# Altium schematic symbol library myIOT_lib.SchLib: 105 symbols (part 2 of 2)
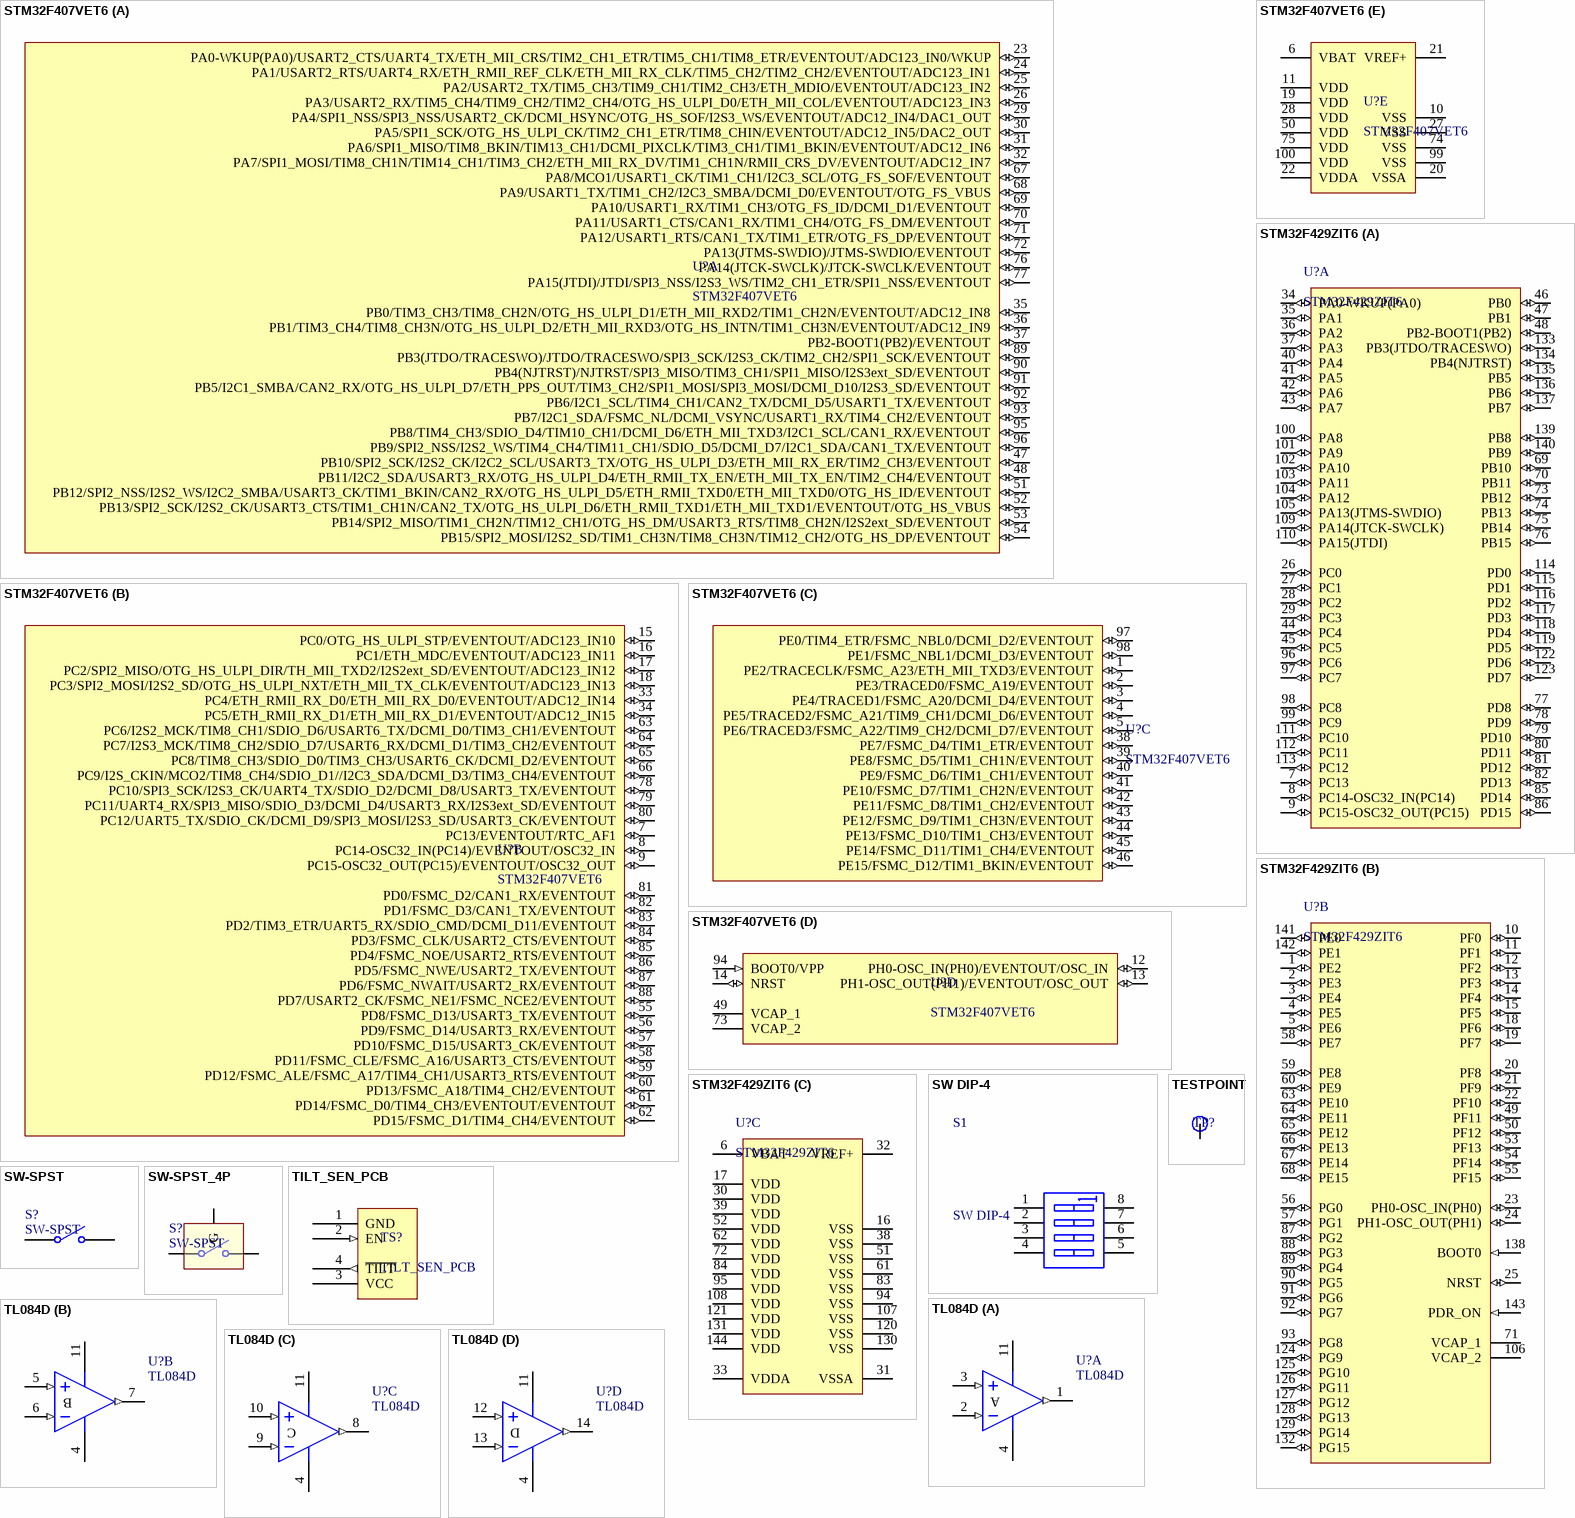
[diagram p9: symbols STM32F407VET6 to TL084D]

## STM32F407VET6
designator U?
ARM; ComponentLink1Description: 供应商链接; ComponentLink1URL: http://www.szlcsc.com/product/details_29482.html; Package: LQFP-100_14x14x05P; Supplier: LC; SuppliersPartNumber: C28730
footprint LQFP-100_14x14x05P
part A pins: 23 PA0-WKUP(PA0)/USART2_CTS/UART4_TX/ETH_MII_CRS/TIM2_CH1_ETR/TIM5_CH1/TIM8_ETR/EVENTOUT/ADC123_IN0/WKUP (io), 24 PA1/USART2_RTS/UART4_RX/ETH_RMII_REF_CLK/ETH_MII_RX_CLK/TIM5_CH2/TIM2_CH2/EVENTOUT/ADC123_IN1 (io), 25 PA2/USART2_TX/TIM5_CH3/TIM9_CH1/TIM2_CH3/ETH_MDIO/EVENTOUT/ADC123_IN2 (io), 26 PA3/USART2_RX/TIM5_CH4/TIM9_CH2/TIM2_CH4/OTG_HS_ULPI_D0/ETH_MII_COL/EVENTOUT/ADC123_IN3 (io), 29 PA4/SPI1_NSS/SPI3_NSS/USART2_CK/DCMI_HSYNC/OTG_HS_SOF/I2S3_WS/EVENTOUT/ADC12_IN4/DAC1_OUT (io), 30 PA5/SPI1_SCK/OTG_HS_ULPI_CK/TIM2_CH1_ETR/TIM8_CHIN/EVENTOUT/ADC12_IN5/DAC2_OUT (io), 31 PA6/SPI1_MISO/TIM8_BKIN/TIM13_CH1/DCMI_PIXCLK/TIM3_CH1/TIM1_BKIN/EVENTOUT/ADC12_IN6 (io), 32 PA7/SPI1_MOSI/TIM8_CH1N/TIM14_CH1/TIM3_CH2/ETH_MII_RX_DV/TIM1_CH1N/RMII_CRS_DV/EVENTOUT/ADC12_IN7 (io), 35 PB0/TIM3_CH3/TIM8_CH2N/OTG_HS_ULPI_D1/ETH_MII_RXD2/TIM1_CH2N/EVENTOUT/ADC12_IN8 (io), 36 PB1/TIM3_CH4/TIM8_CH3N/OTG_HS_ULPI_D2/ETH_MII_RXD3/OTG_HS_INTN/TIM1_CH3N/EVENTOUT/ADC12_IN9 (io), 37 PB2-BOOT1(PB2)/EVENTOUT (io), 47 PB10/SPI2_SCK/I2S2_CK/I2C2_SCL/USART3_TX/OTG_HS_ULPI_D3/ETH_MII_RX_ER/TIM2_CH3/EVENTOUT (io), 48 PB11/I2C2_SDA/USART3_RX/OTG_HS_ULPI_D4/ETH_RMII_TX_EN/ETH_MII_TX_EN/TIM2_CH4/EVENTOUT (io), 51 PB12/SPI2_NSS/I2S2_WS/I2C2_SMBA/USART3_CK/TIM1_BKIN/CAN2_RX/OTG_HS_ULPI_D5/ETH_RMII_TXD0/ETH_MII_TXD0/OTG_HS_ID/EVENTOUT (io), 52 PB13/SPI2_SCK/I2S2_CK/USART3_CTS/TIM1_CH1N/CAN2_TX/OTG_HS_ULPI_D6/ETH_RMII_TXD1/ETH_MII_TXD1/EVENTOUT/OTG_HS_VBUS (io), 53 PB14/SPI2_MISO/TIM1_CH2N/TIM12_CH1/OTG_HS_DM/USART3_RTS/TIM8_CH2N/I2S2ext_SD/EVENTOUT (io), 54 PB15/SPI2_MOSI/I2S2_SD/TIM1_CH3N/TIM8_CH3N/TIM12_CH2/OTG_HS_DP/EVENTOUT (io), 67 PA8/MCO1/USART1_CK/TIM1_CH1/I2C3_SCL/OTG_FS_SOF/EVENTOUT (io), 68 PA9/USART1_TX/TIM1_CH2/I2C3_SMBA/DCMI_D0/EVENTOUT/OTG_FS_VBUS (io), 69 PA10/USART1_RX/TIM1_CH3/OTG_FS_ID/DCMI_D1/EVENTOUT (io), 70 PA11/USART1_CTS/CAN1_RX/TIM1_CH4/OTG_FS_DM/EVENTOUT (io), 71 PA12/USART1_RTS/CAN1_TX/TIM1_ETR/OTG_FS_DP/EVENTOUT (io), 72 PA13(JTMS-SWDIO)/JTMS-SWDIO/EVENTOUT (io), 76 PA14(JTCK-SWCLK)/JTCK-SWCLK/EVENTOUT (io), 77 PA15(JTDI)/JTDI/SPI3_NSS/I2S3_WS/TIM2_CH1_ETR/SPI1_NSS/EVENTOUT (io), 89 PB3(JTDO/TRACESWO)/JTDO/TRACESWO/SPI3_SCK/I2S3_CK/TIM2_CH2/SPI1_SCK/EVENTOUT (io), 90 PB4(NJTRST)/NJTRST/SPI3_MISO/TIM3_CH1/SPI1_MISO/I2S3ext_SD/EVENTOUT (io), 91 PB5/I2C1_SMBA/CAN2_RX/OTG_HS_ULPI_D7/ETH_PPS_OUT/TIM3_CH2/SPI1_MOSI/SPI3_MOSI/DCMI_D10/I2S3_SD/EVENTOUT (io), 92 PB6/I2C1_SCL/TIM4_CH1/CAN2_TX/DCMI_D5/USART1_TX/EVENTOUT (io), 93 PB7/I2C1_SDA/FSMC_NL/DCMI_VSYNC/USART1_RX/TIM4_CH2/EVENTOUT (io), 95 PB8/TIM4_CH3/SDIO_D4/TIM10_CH1/DCMI_D6/ETH_MII_TXD3/I2C1_SCL/CAN1_RX/EVENTOUT (io), 96 PB9/SPI2_NSS/I2S2_WS/TIM4_CH4/TIM11_CH1/SDIO_D5/DCMI_D7/I2C1_SDA/CAN1_TX/EVENTOUT (io)
part B pins: 7 PC13/EVENTOUT/RTC_AF1 (io), 8 PC14-OSC32_IN(PC14)/EVENTOUT/OSC32_IN (io), 9 PC15-OSC32_OUT(PC15)/EVENTOUT/OSC32_OUT (io), 15 PC0/OTG_HS_ULPI_STP/EVENTOUT/ADC123_IN10 (io), 16 PC1/ETH_MDC/EVENTOUT/ADC123_IN11 (io), 17 PC2/SPI2_MISO/OTG_HS_ULPI_DIR/TH_MII_TXD2/I2S2ext_SD/EVENTOUT/ADC123_IN12 (io), 18 PC3/SPI2_MOSI/I2S2_SD/OTG_HS_ULPI_NXT/ETH_MII_TX_CLK/EVENTOUT/ADC123_IN13 (io), 33 PC4/ETH_RMII_RX_D0/ETH_MII_RX_D0/EVENTOUT/ADC12_IN14 (io), 34 PC5/ETH_RMII_RX_D1/ETH_MII_RX_D1/EVENTOUT/ADC12_IN15 (io), 55 PD8/FSMC_D13/USART3_TX/EVENTOUT (io), 56 PD9/FSMC_D14/USART3_RX/EVENTOUT (io), 57 PD10/FSMC_D15/USART3_CK/EVENTOUT (io), 58 PD11/FSMC_CLE/FSMC_A16/USART3_CTS/EVENTOUT (io), 59 PD12/FSMC_ALE/FSMC_A17/TIM4_CH1/USART3_RTS/EVENTOUT (io), 60 PD13/FSMC_A18/TIM4_CH2/EVENTOUT (io), 61 PD14/FSMC_D0/TIM4_CH3/EVENTOUT/EVENTOUT (io), 62 PD15/FSMC_D1/TIM4_CH4/EVENTOUT (io), 63 PC6/I2S2_MCK/TIM8_CH1/SDIO_D6/USART6_TX/DCMI_D0/TIM3_CH1/EVENTOUT (io), 64 PC7/I2S3_MCK/TIM8_CH2/SDIO_D7/USART6_RX/DCMI_D1/TIM3_CH2/EVENTOUT (io), 65 PC8/TIM8_CH3/SDIO_D0/TIM3_CH3/USART6_CK/DCMI_D2/EVENTOUT (io), 66 PC9/I2S_CKIN/MCO2/TIM8_CH4/SDIO_D1//I2C3_SDA/DCMI_D3/TIM3_CH4/EVENTOUT (io), 78 PC10/SPI3_SCK/I2S3_CK/UART4_TX/SDIO_D2/DCMI_D8/USART3_TX/EVENTOUT (io), 79 PC11/UART4_RX/SPI3_MISO/SDIO_D3/DCMI_D4/USART3_RX/I2S3ext_SD/EVENTOUT (io), 80 PC12/UART5_TX/SDIO_CK/DCMI_D9/SPI3_MOSI/I2S3_SD/USART3_CK/EVENTOUT (io), 81 PD0/FSMC_D2/CAN1_RX/EVENTOUT (io), 82 PD1/FSMC_D3/CAN1_TX/EVENTOUT (io), 83 PD2/TIM3_ETR/UART5_RX/SDIO_CMD/DCMI_D11/EVENTOUT (io), 84 PD3/FSMC_CLK/USART2_CTS/EVENTOUT (io), 85 PD4/FSMC_NOE/USART2_RTS/EVENTOUT (io), 86 PD5/FSMC_NWE/USART2_TX/EVENTOUT (io), 87 PD6/FSMC_NWAIT/USART2_RX/EVENTOUT (io), 88 PD7/USART2_CK/FSMC_NE1/FSMC_NCE2/EVENTOUT (io)
part C pins: 1 PE2/TRACECLK/FSMC_A23/ETH_MII_TXD3/EVENTOUT (io), 2 PE3/TRACED0/FSMC_A19/EVENTOUT (io), 3 PE4/TRACED1/FSMC_A20/DCMI_D4/EVENTOUT (io), 4 PE5/TRACED2/FSMC_A21/TIM9_CH1/DCMI_D6/EVENTOUT (io), 5 PE6/TRACED3/FSMC_A22/TIM9_CH2/DCMI_D7/EVENTOUT (io), 38 PE7/FSMC_D4/TIM1_ETR/EVENTOUT (io), 39 PE8/FSMC_D5/TIM1_CH1N/EVENTOUT (io), 40 PE9/FSMC_D6/TIM1_CH1/EVENTOUT (io), 41 PE10/FSMC_D7/TIM1_CH2N/EVENTOUT (io), 42 PE11/FSMC_D8/TIM1_CH2/EVENTOUT (io), 43 PE12/FSMC_D9/TIM1_CH3N/EVENTOUT (io), 44 PE13/FSMC_D10/TIM1_CH3/EVENTOUT (io), 45 PE14/FSMC_D11/TIM1_CH4/EVENTOUT (io), 46 PE15/FSMC_D12/TIM1_BKIN/EVENTOUT (io), 97 PE0/TIM4_ETR/FSMC_NBL0/DCMI_D2/EVENTOUT (io), 98 PE1/FSMC_NBL1/DCMI_D3/EVENTOUT (io)
part D pins: 12 PH0-OSC_IN(PH0)/EVENTOUT/OSC_IN (io), 13 PH1-OSC_OUT(PH1)/EVENTOUT/OSC_OUT (io), 14 NRST (io), 49 VCAP_1 (power), 73 VCAP_2 (power), 94 BOOT0/VPP (in)
part E pins: 6 VBAT (power), 10 VSS (power), 11 VDD (power), 19 VDD (power), 20 VSSA (power), 21 VREF+ (power), 22 VDDA (power), 27 VSS (power), 28 VDD (power), 50 VDD (power), 74 VSS (power), 75 VDD (power), 99 VSS (power), 100 VDD (power)

## STM32F429ZIT6
designator U?
ARM Cortex-M4 32-bit MCU+FPU, 225 DMIPS, 2048 kB Flash, 256 kB Internal RAM, 114 I/Os, 144-pin LQFP, -40 to 85 degC, Tray; Supply Voltage(Vcc) max (V): 3.6; Supply Voltage(Vcc) min (V): 1.8; MFG P/N: STM32F429ZIT6; DatasheetVersion: Rev. 2; Packing: Tray; PackageReference: LQFP144; PackageVersion: Rev. 4, 06/2013; PackageDescription: 144-Pin Low Profile Quad Flat Package, 20 x 20 mm Body, 0.5 mm Pitch
footprint LQFP144_L (Thin QFP, 144-Leads, Body 20x20mm, Pitch 0.5mm, IPC High Density)
footprint LQFP144_M (Thin QFP, 144-Leads, Body 20x20mm, Pitch 0.5mm, IPC Low Density)
footprint LQFP144_N (Thin QFP, 144-Leads, Body 20x20mm, Pitch 0.5mm, IPC Medium Density)
footprint LQFP144_V (Thin QFP, 144-Leads, Body 20x20mm, Pitch 0.5mm, ST Recommended)
part A pins: 7 PC13 (io) "PC13/EVENTOUT/TAMP_1", 8 PC14-OSC32_IN(PC14) (io) "PC14-OSC32_IN(PC14)/EVENTOUT/OSC32_IN", 9 PC15-OSC32_OUT(PC15) (io) "PC15-OSC32_OUT(PC15)/EVENTOUT/OSC32_OUT", 26 PC0 (io) "PC0/OTG_HS_ULPI_STP,FMC_SDNWE,EVENTOUT/ADC123_IN10", 27 PC1 (io) "PC1/ETH_MDC,EVENTOUT/ADC123_IN11", 28 PC2 (io) "PC2/SPI2_MISO,I2S2ext_SD,OTG_HS_ULPI_DIR,ETH_MII_TXD2,FMC_SDNE0,EVENTOUT/ADC123_IN12", 29 PC3 (io) "PC3/SPI2_MOSI/I2S2_SD,OTG_HS_ULPI_NXT,ETH_MII_TX_CLK,FMC_SDCKE0,EVENTOUT/ADC123_IN13", 34 PA0-WKUP(PA0) (io) "PA0-WKUP(PA0)/TIM2_CH1/TIM2_ETR,TIM5_CH1,TIM8_ETR,USART2_CTS,UART4_TX,ETH_MII_CRS,EVENTOUT/ADC123_IN0/WKUP", 35 PA1 (io) "PA1/TIM2_CH2,TIM5_CH2,USART2_RTS,UART4_RX,ETH_MII_RX_CLK/ETH_RMII_REF_CLK,EVENTOUT/ADC123_IN1", 36 PA2 (io) "PA2/TIM2_CH3,TIM5_CH3,TIM9_CH1,USART2_TX,ETH_MDIO,EVENTOUT/ADC123_IN2", 37 PA3 (io) "PA3/TIM2_CH4,TIM5_CH4,TIM9_CH2,USART2_RX,OTG_HS_ULPI_D0,ETH_MII_COL,LCD_B5,EVENTOUT/ADC123_IN3", 40 PA4 (io) "PA4/SPI1_NSS,SPI3_NSS/I2S3_WS,USART2_CK,OTG_HS_SOF,DCMI_HSYNC,LCD_VSYNC,EVENTOUT/ADC12_IN4/DAC_OUT1", 41 PA5 (io) "PA5/TIM2_CH1/TIM2_ETR,TIM8_CH1N,SPI1_SCK,OTG_HS_ULPI_CK,EVENTOUT/ADC12_IN5/DAC_OUT2", 42 PA6 (io) "PA6/TIM1_BKIN,TIM3_CH1,TIM8_BKIN,SPI1_MISO,TIM13_CH1,DCMI_PIXCLK,LCD_G2,EVENTOUT/ADC12_IN6", 43 PA7 (io) "PA7/TIM1_CH1N,TIM3_CH2,TIM8_CH1N,SPI1_MOSI,TIM14_CH1,ETH_MII_RX_DV/ETH_RMII_CRS_DV,EVENTOUT/ADC12_IN7", 44 PC4 (io) "PC4/ETH_MII_RXD0/ETH_RMII_RXD0,EVENTOUT/ADC12_IN14", 45 PC5 (io) "PC5/ETH_MII_RXD1/ETH_RMII_RXD1,EVENTOUT/ADC12_IN15", 46 PB0 (io) "PB0/TIM1_CH2N,TIM3_CH3,TIM8_CH2N,LCD_R3,OTG_HS_ULPI_D1,ETH_MII_RXD2,EVENTOUT/ADC12_IN8", 47 PB1 (io) "PB1/TIM1_CH3N,TIM3_CH4,TIM8_CH3N,LCD_R6,OTG_HS_ULPI_D2,ETH_MII_RXD3,EVENTOUT/ADC12_IN9", 48 PB2-BOOT1(PB2) (io) "PB2-BOOT1(PB2)/EVENTOUT", 69 PB10 (io) "PB10/TIM2_CH3,I2C2_SCL,SPI2_SCK/I2S2_CK,USART3_TX,OTG_HS_ULPI_D3,ETH_MII_RX_ER,LCD_G4,EVENTOUT", 70 PB11 (io) "PB11/TIM2_CH4,I2C2_SDA,USART3_RX,OTG_HS_ULPI_D4,ETH_MII_TX_EN/ETH_RMII_TX_EN,LCD_G5,EVENTOUT", 73 PB12 (io) "PB12/TIM1_BKIN,I2C2_SMBA,SPI2_NSS/I2S2_WS,USART3_CK,CAN2_RX,OTG_HS_ULPI_D5,ETH_MII_TXD0/ETH_RMII_TXD0,OTG_HS_ID,EVENTOUT", 74 PB13 (io) "PB13/TIM1_CH1N,SPI2_SCK/I2S2_CK,USART3_CTS,CAN2_TX,OTG_HS_ULPI_D6,ETH_MII_TXD1/ETH_RMII_TXD1,EVENTOUT/OTG_HS_VBUS", 75 PB14 (io) "PB14/TIM1_CH2N,TIM8_CH2N,SPI2_MISO,I2S2ext_SD,USART3_RTS,TIM12_CH1,EVENTOUT/OTG_HS_DM", 76 PB15 (io) "PB15/RTC_REFIN,TIM1_CH3N,TIM8_CH3N,SPI2_MOSI/I2S2_SD,TIM12_CH2,EVENTOUT/OTG_HS_DP", 77 PD8 (io) "PD8/USART3_TX,FMC_D13,EVENTOUT", 78 PD9 (io) "PD9/USART3_RX,FMC_D14,EVENTOUT", 79 PD10 (io) "PD10/USART3_CK,FMC_D15,LCD_B3,EVENTOUT", 80 PD11 (io) "PD11/USART3_CTS,FMC_A16,EVENTOUT", 81 PD12 (io) "PD12/TIM4_CH1,USART3_RTS,FMC_A17,EVENTOUT", 82 PD13 (io) "PD13/TIM4_CH2,FMC_A18,EVENTOUT", 85 PD14 (io) "PD14/TIM4_CH3,FMC_D0,EVENTOUT", 86 PD15 (io) "PD15/TIM4_CH4,FMC_D1,EVENTOUT", 96 PC6 (io) "PC6/TIM3_CH1,TIM8_CH1,I2S2_MCK,USART6_TX,SDIO_D6,DCMI_D0,LCD_HSYNC,EVENTOUT", 97 PC7 (io) "PC7/TIM3_CH2,TIM8_CH2,I2S3_MCK,USART6_RX,SDIO_D7,DCMI_D1,LCD_G6,EVENTOUT", 98 PC8 (io) "PC8/TIM3_CH3,TIM8_CH3,USART6_CK,SDIO_D0,DCMI_D2,EVENTOUT", 99 PC9 (io) "PC9/MCO2,TIM3_CH4,TIM8_CH4,I2C3_SDA,I2S_CKIN,SDIO_D1,DCMI_D3,EVENTOUT", 100 PA8 (io) "PA8/MCO1,TIM1_CH1,I2C3_SCL,USART1_CK,OTG_FS_SOF,LCD_R6,EVENTOUT", 101 PA9 (io) "PA9/TIM1_CH2,I2C3_SMBA,USART1_TX,DCMI_D0,EVENTOUT/OTG_FS_VBUS", 102 PA10 (io) "PA10/TIM1_CH3,USART1_RX,OTG_FS_ID,DCMI_D1,EVENTOUT", 103 PA11 (io) "PA11/TIM1_CH4,USART1_CTS,CAN1_RX,LCD_R4,EVENTOUT/OTG_FS_DM", 104 PA12 (io) "PA12/TIM1_ETR,USART1_RTS,CAN1_TX,LCD_R5,EVENTOUT/OTG_FS_DP", 105 PA13(JTMS-SWDIO) (io) "PA13(JTMS-SWDIO)/JTMS-SWDIO,EVENTOUT", 109 PA14(JTCK-SWCLK) (io) "PA14(JTCK-SWCLK)/JTCK-SWCLK/EVENTOUT", 110 PA15(JTDI) (io) "PA15(JTDI)/JTDI,TIM2_CH1/TIM2_ETR,SPI1_NSS,SPI3_NSS/I2S3_WS,EVENTOUT", 111 PC10 (io) "PC10/SPI3_SCK/I2S3_CK,USART3_TX,UART4_TX,SDIO_D2,DCMI_D8,LCD_R2,EVENTOUT", 112 PC11 (io) "PC11/I2S3ext_SD,SPI3_MISO,USART3_RX,UART4_RX,SDIO_D3,DCMI_D4,EVENTOUT", 113 PC12 (io) "PC12/SPI3_MOSI/I2S3_SD,USART3_CK,UART5_TX,SDIO_CK,DCMI_D9,EVENTOUT", 114 PD0 (io) "PD0/CAN1_RX,FMC_D2,EVENTOUT", 115 PD1 (io) "PD1/CAN1_TX,FMC_D3,EVENTOUT", 116 PD2 (io) "PD2/TIM3_ETR,UART5_RX,SDIO_CMD,DCMI_D11,EVENTOUT", 117 PD3 (io) "PD3/SPI2_SCK/I2S2_CK,USART2_CTS,FMC_CLK,DCMI_D5,LCD_G7,EVENTOUT", 118 PD4 (io) "PD4/USART2_RTS,FMC_NOE,EVENTOUT", 119 PD5 (io) "PD5/USART2_TX,FMC_NWE,EVENTOUT", 122 PD6 (io) "PD6/SPI3_MOSI/I2S3_SD,SAI1_SD_A,USART2_RX,FMC_NWAIT,DCMI_D10,LCD_B2,EVENTOUT", 123 PD7 (io) "PD7/USART2_CK,FMC_NE1/FMC_NCE2,EVENTOUT", 133 PB3(JTDO/TRACESWO) (io) "PB3(JTDO/TRACESWO)/JTDO/TRACESWO,TIM2_CH2,SPI1_SCK,SPI3_SCK/I2S3_CK,EVENTOUT", 134 PB4(NJTRST) (io) "PB4(NJTRST)/NJTRST,TIM3_CH1,SPI1_MISO,SPI3_MISO,I2S3ext_SD,EVENTOUT", 135 PB5 (io) "PB5/TIM3_CH2,I2C1_SMBA,SPI1_MOSI,SPI3_MOSI/I2S3_SD,CAN2_RX,OTG_HS_ULPI_D7,ETH_PPS_OUT,FMC_SDCKE1,DCMI_D10,EVENTOUT", 136 PB6 (io) "PB6/TIM4_CH1,I2C1_SCL,USART1_TX,CAN2_TX,FMC_SDNE1,DCMI_D5,EVENTOUT", 137 PB7 (io) "PB7/TIM4_CH2,I2C1_SDA,USART1_RX,FMC_NL,DCMI_VSYNC,EVENTOUT", 139 PB8 (io) "PB8/TIM4_CH3,TIM10_CH1,I2C1_SCL,CAN1_RX,ETH_MII_TXD3,SDIO_D4,DCMI_D6,LCD_B6,EVENTOUT", 140 PB9 (io) "PB9/TIM4_CH4,TIM11_CH1,I2C1_SDA,SPI2_NSS/I2S2_WS,CAN1_TX,SDIO_D5,DCMI_D7,LCD_B7,EVENTOUT"
part B pins: 1 PE2 (io) "PE2/TRACECLK,SPI4_SCK,SAI1_MCLK_A,ETH_MII_TXD3,FMC_A23,EVENTOUT", 2 PE3 (io) "PE3/TRACED0,SAI1_SD_B,FMC_A19,EVENTOUT", 3 PE4 (io) "PE4/TRACED1,SPI4_NSS,SAI1_FS_A,FMC_A20,DCMI_D4,LCD_B0,EVENTOUT", 4 PE5 (io) "PE5/TRACED2,TIM9_CH1,SPI4_MISO,SAI1_SCK_A,FMC_A21,DCMI_D6,LCD_G0,EVENTOUT", 5 PE6 (io) "PE6/TRACED3,TIM9_CH2,SPI4_MOSI,SAI1_SD_A,FMC_A22,DCMI_D7,LCD_G1,EVENTOUT", 10 PF0 (io) "PF0/I2C2_SDA,FMC_A0,EVENTOUT", 11 PF1 (io) "PF1/I2C2_SCL,FMC_A1,EVENTOUT", 12 PF2 (io) "PF2/I2C2_SMBA,FMC_A2,EVENTOUT", 13 PF3 (io) "PF3/FMC_A3,EVENTOUT/ADC3_IN9", 14 PF4 (io) "PF4/FMC_A4,EVENTOUT/ADC3_IN14", 15 PF5 (io) "PF5/FMC_A5,EVENTOUT/ADC3_IN15", 18 PF6 (io) "PF6/TIM10_CH1,SPI5_NSS,SAI1_SD_B,UART7_RX,FMC_NIORD,EVENTOUT/ADC3_IN4", 19 PF7 (io) "PF7/TIM11_CH1,SPI5_SCK,SAI1_MCLK_B,UART7_TX,FMC_NREG,EVENTOUT/ADC3_IN5", 20 PF8 (io) "PF8/SPI5_MISO,SAI1_SCK_B,TIM13_CH1,FMC_NIOWR,EVENTOUT/ADC3_IN6", 21 PF9 (io) "PF9/SPI5_MOSI,SAI1_FS_B,TIM14_CH1,FMC_CD,EVENTOUT/ADC3_IN7", 22 PF10 (io) "PF10/FMC_INTR,DCMI_D11,LCD_DE,EVENTOUT/ADC3_IN8", 23 PH0-OSC_IN(PH0) (io) "PH0-OSC_IN(PH0)/EVENTOUT/OSC_IN", 24 PH1-OSC_OUT(PH1) (io) "PH1-OSC_OUT(PH1)/EVENTOUT/OSC_OUT", 25 NRST (io), 49 PF11 (io) "PF11/SPI5_MOSI,FMC_SDNRAS,DCMI_D12,EVENTOUT", 50 PF12 (io) "PF12/FMC_A6,EVENTOUT", 53 PF13 (io) "PF13/FMC_A7,EVENTOUT", 54 PF14 (io) "PF14/FMC_A8,EVENTOUT", 55 PF15 (io) "PF15/FMC_A9,EVENTOUT", 56 PG0 (io) "PG0/FMC_A10,EVENTOUT", 57 PG1 (io) "PG1/FMC_A11,EVENTOUT", 58 PE7 (io) "PE7/TIM1_ETR,UART7_RX,FMC_D4,EVENTOUT", 59 PE8 (io) "PE8/TIM1_CH1N,UART7_TX,FMC_D5,EVENTOUT", 60 PE9 (io) "PE9/TIM1_CH1,FMC_D6,EVENTOUT", 63 PE10 (io) "PE10/TIM1_CH2N,FMC_D7,EVENTOUT", 64 PE11 (io) "PE11/TIM1_CH2,SPI4_NSS,FMC_D8,LCD_G3,EVENTOUT", 65 PE12 (io) "PE12/TIM1_CH3N,SPI4_SCK,FMC_D9,LCD_B4,EVENTOUT", 66 PE13 (io) "PE13/TIM1_CH3,SPI4_MISO,FMC_D10,LCD_DE,EVENTOUT", 67 PE14 (io) "PE14/TIM1_CH4,SPI4_MOSI,FMC_D11,LCD_CLK,EVENTOUT", 68 PE15 (io) "PE15/TIM1_BKIN,FMC_D12,LCD_R7,EVENTOUT", 71 VCAP_1 (power), 87 PG2 (io) "PG2/FMC_A12,EVENTOUT", 88 PG3 (io) "PG3/FMC_A13,EVENTOUT", 89 PG4 (io) "PG4/FMC_A14/FMC_BA0,EVENTOUT", 90 PG5 (io) "PG5/FMC_A15/FMC_BA1,EVENTOUT", 91 PG6 (io) "PG6/FMC_INT2,DCMI_D12,LCD_R7,EVENTOUT", 92 PG7 (io) "PG7/USART6_CK,FMC_INT3,DCMI_D13,LCD_CLK,EVENTOUT", 93 PG8 (io) "PG8/SPI6_NSS,USART6_RTS,ETH_PPS_OUT,FMC_SDCLK,EVENTOUT", 106 VCAP_2 (power), 124 PG9 (io) "PG9/USART6_RX,FMC_NE2/FMC_NCE3,EVENTOUT", 125 PG10 (io) "PG10/LCD_G3,FMC_NCE4_1/FMC_NE3,DCMI_D2,LCD_B2,EVENTOUT", 126 PG11 (io) "PG11/ETH_MII_TX_EN/ETH_RMII_TX_EN,FMC_NCE4_2,DCMI_D3,LCD_B3,EVENTOUT", 127 PG12 (io) "PG12/SPI6_MISO,USART6_RTS,LCD_B4,FMC_NE4,LCD_B1,EVENTOUT", 128 PG13 (io) "PG13/SPI6_SCK,USART6_CTS,ETH_MII_TXD0/ETH_RMII_TXD0,FMC_A24,EVENTOUT", 129 PG14 (io) "PG14/SPI6_MOSI,USART6_TX,ETH_MII_TXD1/ETH_RMII_TXD1,FMC_A25,EVENTOUT", 132 PG15 (io) "PG15/USART6_CTS,FMC_SDNCAS,DCMI_D13,EVENTOUT", 138 BOOT0 (in) "BOOT0/VPP", 141 PE0 (io) "PE0/TIM4_ETR,UART8_RX,FMC_NBL0,DCMI_D2,EVENTOUT", 142 PE1 (io) "PE1/UART8_TX,FMC_NBL1,DCMI_D3,EVENTOUT", 143 PDR_ON (in)
part C pins: 6 VBAT (power), 16 VSS (power), 17 VDD (power), 30 VDD (power), 31 VSSA (power), 32 VREF+ (power), 33 VDDA (power), 38 VSS (power), 39 VDD (power), 51 VSS (power), 52 VDD (power), 61 VSS (power), 62 VDD (power), 72 VDD (power), 83 VSS (power), 84 VDD (power), 94 VSS (power), 95 VDD (power), 107 VSS (power), 108 VDD (power), 120 VSS (power), 121 VDD (power), 130 VSS (power), 131 VDD (power), 144 VDD (power)

## SW DIP-4
designator S1
DIP Switch, 4 Position, SPST; Published: 24-Mar-1999; LatestRevisionDate: 29-May-2009; LatestRevisionNote: IPC-7351 Footprint Added.; PackageReference: SO8; Publisher: Altium Limited; PackageVersion: Dec-2002; PackageDescription: 8-Pin Small Outline Integrated Circuit 1.27 mm Pitch; Code_JEDEC: MS-012-AA; Code_IPC: SOIC127P600-8
footprint DIPSW_SMD4P
pins: 1 A1, 2 A2, 3 A3, 4 A4, 5 B4, 6 B3, 7 B2, 8 B1

## SW-SPST
designator S?
Single-Pole, Single-Throw Switch; Anunda_Code: M1406; Published: 24-Mar-1999; LatestRevisionDate: 17-Jul-2002; LatestRevisionNote: Re-released for DXP Platform.; PackageReference: SPST-2; Publisher: Altium Limited; PackageDescription: Switch; 2 Leads
footprint TACTILE-OMRON/WE (TACTILE, 6 x 6mm-OMRON/Wurth Electronics)
pins: 1 COMMON, 2 NO

## SW-SPST_4P
designator S?, comment SW-SPST
Single-Pole, Single-Throw Switch; Anunda_Code: M1406; Published: 24-Mar-1999; LatestRevisionDate: 17-Jul-2002; LatestRevisionNote: Re-released for DXP Platform.; PackageReference: SPST-2; Publisher: Altium Limited; PackageDescription: Switch; 2 Leads
footprint TACT_THSW
pins: 0 G, 1 COMMON, 2 NO

## TESTPOINT
designator TP?  (net tie, no BOM)
Testpoint open pad 1mm diameter round; ClassName: TESTPOINT
footprint TestPoint
pins: 1 a

## TILT_SEN_PCB
designator TS?
footprint TILT_SEN_PCB
pins: 1 GND, 2 EN (in), 3 VCC, 4 ~{TILT} (out)

## TL084D
designator U?
JFET-Input Operational Amplifier; Published: 16-Jan-2001; LatestRevisionDate: 13-Apr-2006; LatestRevisionNote: IPC-7351 Footprint Added.; DatasheetVersion: Feb-1999; PackageVersion: Jan-1998; PackageReference: D014; Publisher: Altium Limited; PackageDescription: 14-Pin Small Outline Integrated Circuit 1.27 mm Pitch; Code_IPC: SOIC127P600-14
simulation model TL084 (SUBCKT)
footprint SOIC-14_150mil
pins on every part: 4 V+ (power), 11 V- (power)
part A pins: 1 OUT (out), 2 IN- (in), 3 IN+ (in)
part B pins: 5 IN+ (in), 6 IN- (in), 7 OUT (out)
part C pins: 8 OUT (out), 9 IN- (in), 10 IN+ (in)
part D pins: 12 IN+ (in), 13 IN- (in), 14 OUT (out)
part A text: A
part B text: B
part C text: C
part D text: D

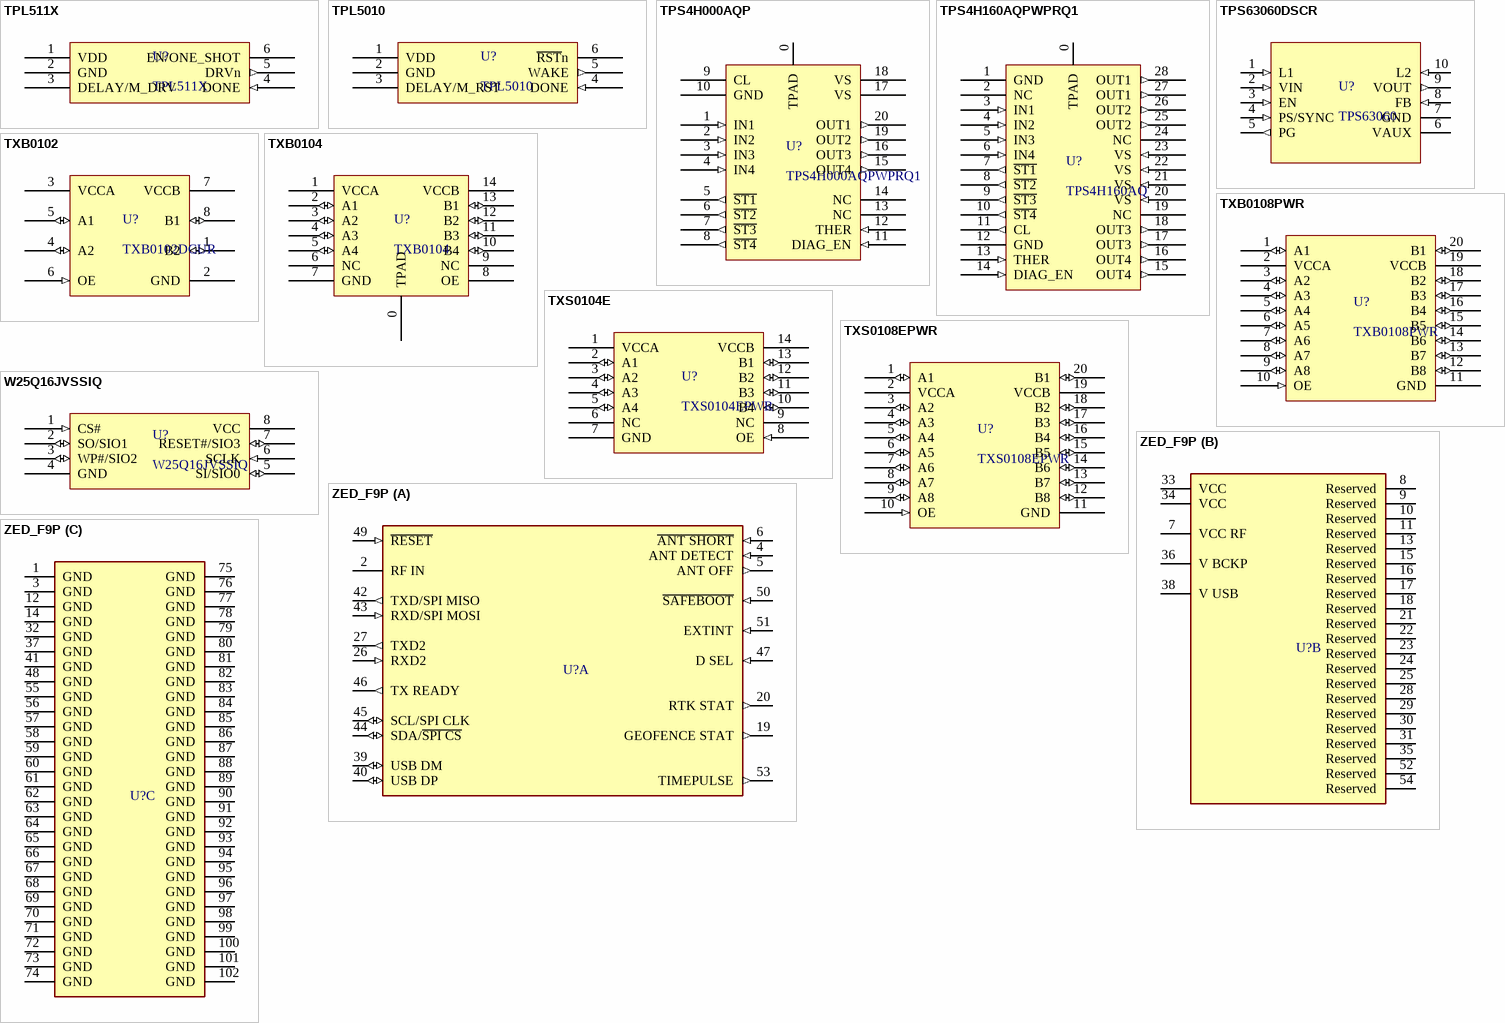
[diagram p8: symbols TPL511X to ZED_F9P]

## TPL511X
designator U?
TPL511x  ic Timer and one shot programmable timeout
footprint SOT23-6
pins: 1 VDD, 2 GND, 3 DELAY/M_DRV, 4 DONE (in), 5 DRVn (out), 6 EN/ONE_SHOT

## TPL5010
designator U?
IC TPL5010QDDCRQ1 Programmable timer W/Watchdog SOT-23-6; Anunda_Code: M1968; MFG: Texas Instruments; MFG P/N: TPL5010QDDCRQ1
footprint SOT23-6
pins: 1 VDD, 2 GND, 3 DELAY/M_RST, 4 DONE (in), 5 WAKE (out), 6 ~{RST}n

## TPS4H000AQP
designator U?, comment TPS4H000AQPWPRQ1
TPS4H000AQPWPRQ1  40-V, 1000-mO Quad-Channel Smart High-Side Switch
footprint 20-HTSSOP (TSOP, 20-Leads, Body 6.50x4.40mm, Pitch 0.65mm, Thermal Pad 3.40x2.40mm, IPC Medium Density)
pins: 0 TPAD, 1 IN1 (in), 2 IN2 (in), 3 IN3 (in), 4 IN4 (in), 5 ~{ST1} (out), 6 ~{ST2} (out), 7 ~{ST3} (out), 8 ~{ST4} (out), 9 CL, 10 GND, 11 DIAG_EN (in), 12 THER (in), 13 NC, 14 NC, 15 OUT4 (out), 16 OUT3 (out), 17 VS, 18 VS, 19 OUT2 (out), 20 OUT1 (out)

## TPS4H160AQPWPRQ1
designator U?, comment TPS4H160AQ
footprint 28-HTSSOP (TSOP, 28-Leads, Body 9.70x4.40mm, Pitch 0.65mm, Thermal Pad 5.58x3.10mm, IPC Medium Density)
pins: 0 TPAD, 1 GND, 2 NC, 3 IN1 (in), 4 IN2 (in), 5 IN3 (in), 6 IN4 (in), 7 ~{ST1} (out), 8 ~{ST2} (out), 9 ~{ST3} (out), 10 ~{ST4} (out), 11 CL (out), 12 GND, 13 THER (in), 14 DIAG_EN (in), 15 OUT4 (out), 16 OUT4 (out), 17 OUT3 (out), 18 OUT3 (out), 19 NC, 20 VS (in), 21 VS (in), 22 VS (in), 23 VS (in), 24 NC, 25 OUT2 (out), 26 OUT2 (out), 27 OUT1 (out), 28 OUT1 (out)

## TPS63060DSCR
designator U?, comment TPS63060
TPS63060  High Input Voltage,  Buck-Boost  Converter  With 2-A Switch  Current; Anunda_Code: M1922; Digi-Key: 296-30204-1-ND
footprint S-PWSON-N10 (QFN, 10-Leads, Body 3.00x3.00mm, Pitch 0.50mm, Thermal Pad 1.70x2.15mm, IPC Medium Density)
pins: 0 TPAD hidden to TPAD, 1 L1 (in), 2 VIN (in), 3 EN (in), 4 PS/SYNC (in), 5 PG (out), 6 VAUX, 7 GND, 8 FB (in), 9 VOUT (out), 10 L2 (in)

## TXB0102
designator U?, comment TXB0102DCUR
IC VOLT-LVL TRANSL BI-DIR US8 Translator 100Mbps(TXB0102DCUR); Anunda_Code: M1905; Value: TXB0102DCUR
footprint VSSOP-8 (TSSOP, 8-Leads, Body 2.00x2.30mm, Pitch 0.50mm, IPC Medium Density)
pins: 1 B2 (io), 2 GND, 3 VCCA (power), 4 A2 (io), 5 A1 (io), 6 OE (in), 7 VCCB (power), 8 B1 (io)

## TXB0104
designator U?
TXB0104 Level Translator
footprint PVQFN-14 (QFN, 14-Leads, Body 3.50x3.50mm, Pitch 1.50mm/0.50mm, Thermal Pad 2.05x2.05mm, IPC Medium Density)
pins: 0 TPAD, 1 VCCA (power), 2 A1 (io), 3 A2 (io), 4 A3 (io), 5 A4 (io), 6 NC, 7 GND, 8 OE, 9 NC, 10 B4 (io), 11 B3 (io), 12 B2 (io), 13 B1 (io), 14 VCCB (power)

## TXB0108PWR
designator U?
IC TXB0108PWR 8 bits Logic Translator TSSOP-20; Anunda_Code: M1405; Value: TXB0108PWR
footprint TSSOP20
pins: 1 A1 (io), 2 VCCA, 3 A2 (io), 4 A3 (io), 5 A4 (io), 6 A5 (io), 7 A6 (io), 8 A7 (io), 9 A8 (io), 10 OE (in), 11 GND, 12 B8 (io), 13 B7 (io), 14 B6 (io), 15 B5 (io), 16 B4 (io), 17 B3 (io), 18 B2 (io), 19 VCCB, 20 B1 (io)

## TXS0104E
designator U?, comment TXS0104EPWR
TXS0104E 4-Bit Bidirectional Voltage-Level Translator for Open-Drain and Push-Pull / Applications; Anunda_Code: M2024; MFG: Texas Instruments; Value: TXS0104EPWR; MFG P/N: TXS0104EPWR
footprint TSSOP14
pins: 1 VCCA, 2 A1 (io), 3 A2 (io), 4 A3 (io), 5 A4 (io), 6 NC, 7 GND, 8 OE (in), 9 NC, 10 B4 (io), 11 B3 (io), 12 B2 (io), 13 B1 (io), 14 VCCB

## TXS0108EPWR
designator U?
IC TXS0108EPWR 8 bits Logic Translator TSSOP-20; Anunda_Code: M2005; Value: TXS0108EPWR
footprint TSSOP20
pins: 1 A1 (io), 2 VCCA, 3 A2 (io), 4 A3 (io), 5 A4 (io), 6 A5 (io), 7 A6 (io), 8 A7 (io), 9 A8 (io), 10 OE (in), 11 GND, 12 B8 (io), 13 B7 (io), 14 B6 (io), 15 B5 (io), 16 B4 (io), 17 B3 (io), 18 B2 (io), 19 VCCB, 20 B1 (io)

## W25Q16JVSSIQ
designator U?
NOR-SPI Flash Winbond W25Q16JVSSIQ Power Supply 2.7V to 3.6V; Anunda_Code: D1143; MFG: Winbond Electronics; MFG P/N: W25Q16JVSSIQ
footprint SOIC-8_208mil
pins: 1 CS# (in), 2 SO/SIO1 (io), 3 WP#/SIO2 (io), 4 GND, 5 SI/SIO0 (io), 6 SCLK (in), 7 RESET#/SIO3 (io), 8 VCC (power)

## ZED_F9P
designator U?  (value not drawn)
footprint UBlox_ZED
part A pins: 2 RF IN, 4 ANT DETECT (in), 5 ANT OFF (out), 6 ~{ANT SHORT} (in), 19 GEOFENCE STAT (out), 20 RTK STAT (out), 26 RXD2 (in), 27 TXD2 (out), 39 USB DM (io), 40 USB DP (io), 42 TXD/SPI MISO (out), 43 RXD/SPI MOSI (in), 44 SDA/~{SPI CS} (io), 45 SCL/SPI CLK (io), 46 TX READY (out), 47 D SEL (in), 49 ~{RESET} (in), 50 ~{SAFEBOOT} (in), 51 EXTINT (in), 53 TIMEPULSE (out)
part B pins: 7 VCC RF (power), 8 Reserved, 9 Reserved, 10 Reserved, 11 Reserved, 13 Reserved, 15 Reserved, 16 Reserved, 17 Reserved, 18 Reserved, 21 Reserved, 22 Reserved, 23 Reserved, 24 Reserved, 25 Reserved, 28 Reserved, 29 Reserved, 30 Reserved, 31 Reserved, 33 VCC (power), 34 VCC (power), 35 Reserved, 36 V BCKP (power), 38 V USB (power), 52 Reserved, 54 Reserved
part C pins: 1 GND (power), 3 GND (power), 12 GND (power), 14 GND (power), 32 GND (power), 37 GND (power), 41 GND (power), 48 GND (power), 55 GND (power), 56 GND (power), 57 GND (power), 58 GND (power), 59 GND (power), 60 GND (power), 61 GND (power), 62 GND (power), 63 GND (power), 64 GND (power), 65 GND (power), 66 GND (power), 67 GND (power), 68 GND (power), 69 GND (power), 70 GND (power), 71 GND (power), 72 GND (power), 73 GND (power), 74 GND (power), 75 GND (power), 76 GND (power), 77 GND (power), 78 GND (power), 79 GND (power), 80 GND (power), 81 GND (power), 82 GND (power), 83 GND (power), 84 GND (power), 85 GND (power), 86 GND (power), 87 GND (power), 88 GND (power), 89 GND (power), 90 GND (power), 91 GND (power), 92 GND (power), 93 GND (power), 94 GND (power), 95 GND (power), 96 GND (power), 97 GND (power), 98 GND (power), 99 GND (power), 100 GND (power), 101 GND (power), 102 GND (power)